# EAGLE library part STNS01 (library STNS01)
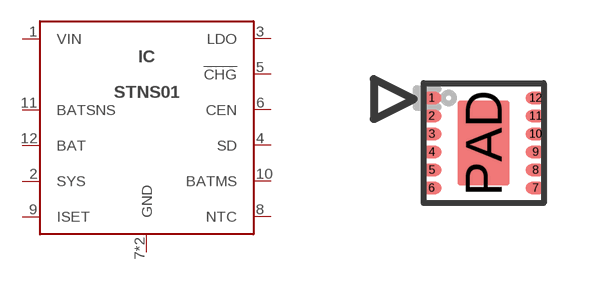
[diagram p0: symbol with the pads of DFN12L-3MM; footprint DFN12L-3MM]

Designator prefix IC

## STNS01 (MF: ST; MPN: STNS01PUR)  [DFN12L-3MM]
1  VIN  pwr
2  SYS
3  LDO  pwr
4  SD
5  !CHG
6  CEN
7  GND  pwr
8  NTC
9  ISET
10  BATMS
11  BATSNS
12  BAT
PAD  GND  pwr

## Footprint DFN12L-3MM (pad centres in mm)
smd 0.5 x 0.3: 1 -1.3,1.125; 2 -1.3,0.675; 3 -1.3,0.225; 4 -1.3,-0.225; 5 -1.3,-0.675; 6 -1.3,-1.125; 7 1.3,-1.125; 8 1.3,-0.675; 9 1.3,-0.225; 10 1.3,0.225; 11 1.3,0.675; 12 1.3,1.125
smd 1.31 x 2.12: PAD 0,0